# Altium schematic symbol library WR-WTB.SchLib: 259 symbols (part 3 of 5)
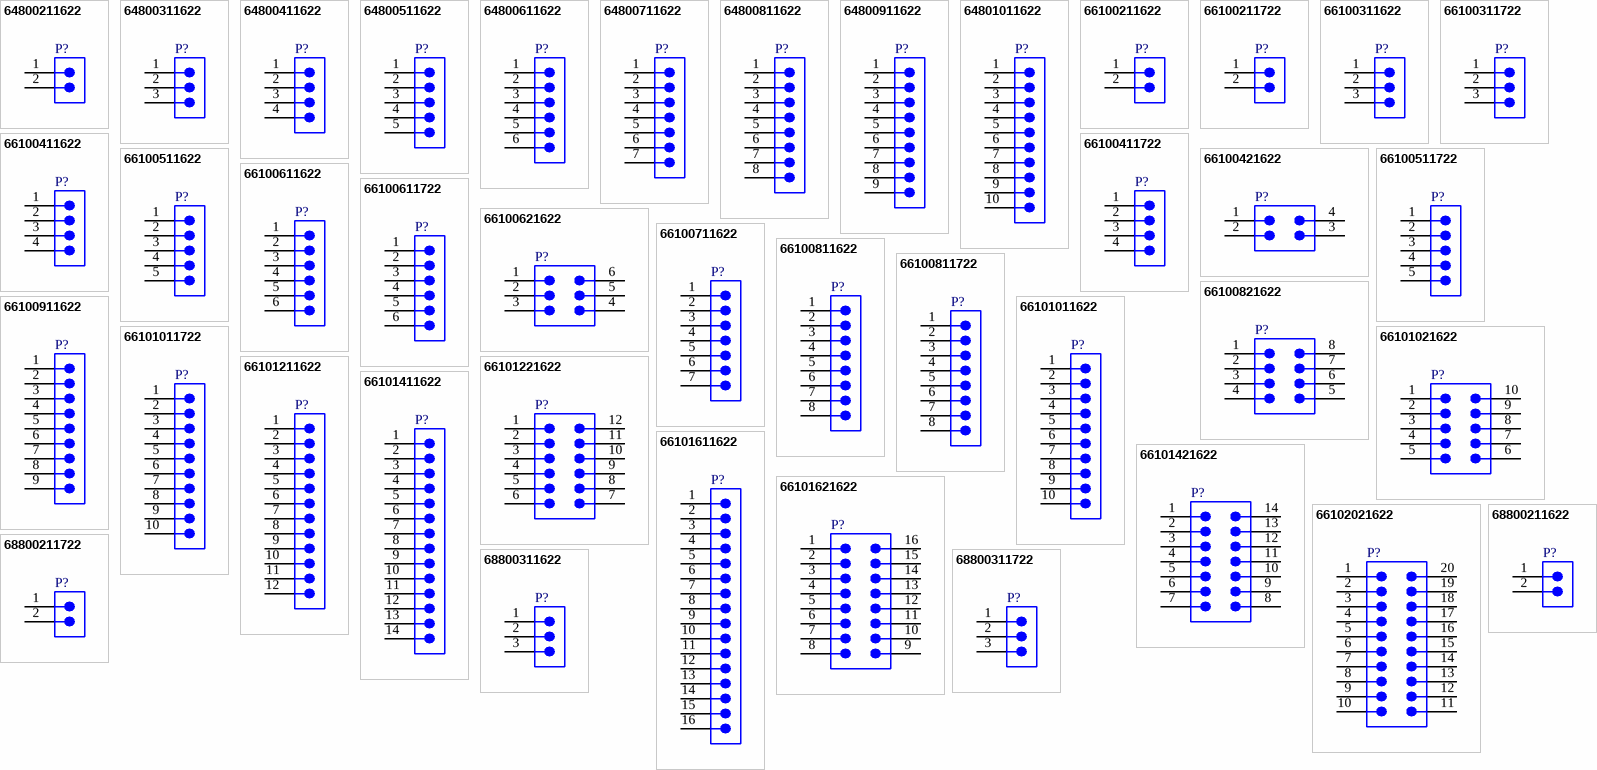
[diagram p8: symbols 64800211622 to 68800311722]

## 68800211622
designator P?  (value not drawn)
WR-WTB “J” Type THT Vertical Male Shrouded Header, pitch 2.5mm, 2pins; Manufacturer: Wurth Elektronik; Contact Resistance: 20mohm; Rated Current: 3A; Working Voltage: 250V(AC); Withstanding Voltage: 800V(AC); Manufacturer Part Number: 68800211622; Product Series: WR-WTB; ComponentLink1Description: Website Link; ComponentLink1URL: https://www.we-online.com; ComponentLink2Description: Datasheet Link; ComponentLink2URL: https://www.we-online.com/components/products/datasheet/68800211622; Mount: Through Hole; Operating Temperature Min: -25degC; Operating Temperature Max: 85degC; Packaging: Bag; Length: 7.5mm; Width: 3.8mm; Height: 6mm; Gender: Male; Number of Pins: 2; Number of Rows: 1; Orientation: Vertical; Lead Pitch: 2.5mm
footprint 68800211622
pins: 1, 2

## 68800211722
designator P?  (value not drawn)
WR-WTB “J” Type THT Male Horizontal Shrouded Header, pitch 2.5mm, 2pins; Manufacturer: Wurth Elektronik; Contact Resistance: 20mohm; Rated Current: 3A; Working Voltage: 250V(AC); Withstanding Voltage: 800V(AC); Manufacturer Part Number: 68800211722; Product Series: WR-WTB; ComponentLink1Description: Website Link; ComponentLink1URL: https://www.we-online.com; ComponentLink2Description: Datasheet Link; ComponentLink2URL: https://www.we-online.com/components/products/datasheet/68800211722; Mount: Through Hole; Operating Temperature Min: -25degC; Operating Temperature Max: 85degC; Packaging: Bag; Length: 7.5mm; Width: 8.3mm; Height: 4.2mm; Gender: Male; Number of Pins: 2; Number of Rows: 1; Orientation: Horizontal; Lead Pitch: 2.5mm
footprint 68800211722
pins: 1, 2

## 68800311622
designator P?  (value not drawn)
WR-WTB “J” Type THT Vertical Male Shrouded Header, pitch 2.5mm, 3pins; Manufacturer: Wurth Elektronik; Contact Resistance: 20mohm; Rated Current: 3A; Working Voltage: 250V(AC); Withstanding Voltage: 800V(AC); Manufacturer Part Number: 68800311622; Product Series: WR-WTB; ComponentLink1Description: Website Link; ComponentLink1URL: https://www.we-online.com; ComponentLink2Description: Datasheet Link; ComponentLink2URL: https://www.we-online.com/components/products/datasheet/68800311622; Mount: Through Hole; Operating Temperature Min: -25degC; Operating Temperature Max: 85degC; Packaging: Bag; Length: 10mm; Width: 3.8mm; Height: 6mm; Gender: Male; Number of Pins: 3; Number of Rows: 1; Orientation: Vertical; Lead Pitch: 2.5mm
footprint 68800311622
pins: 1, 2, 3

## 68800311722
designator P?  (value not drawn)
WR-WTB “J” Type THT Male Horizontal Shrouded Header, pitch 2.5mm, 3pins; Manufacturer: Wurth Elektronik; Contact Resistance: 20mohm; Rated Current: 3A; Working Voltage: 250V(AC); Withstanding Voltage: 800V(AC); Manufacturer Part Number: 68800311722; Product Series: WR-WTB; ComponentLink1Description: Website Link; ComponentLink1URL: https://www.we-online.com; ComponentLink2Description: Datasheet Link; ComponentLink2URL: https://www.we-online.com/components/products/datasheet/68800311722; Mount: Through Hole; Operating Temperature Min: -25degC; Operating Temperature Max: 85degC; Packaging: Bag; Length: 10mm; Width: 8.3mm; Height: 4.2mm; Gender: Male; Number of Pins: 3; Number of Rows: 1; Orientation: Horizontal; Lead Pitch: 2.5mm
footprint 68800311722
pins: 1, 2, 3

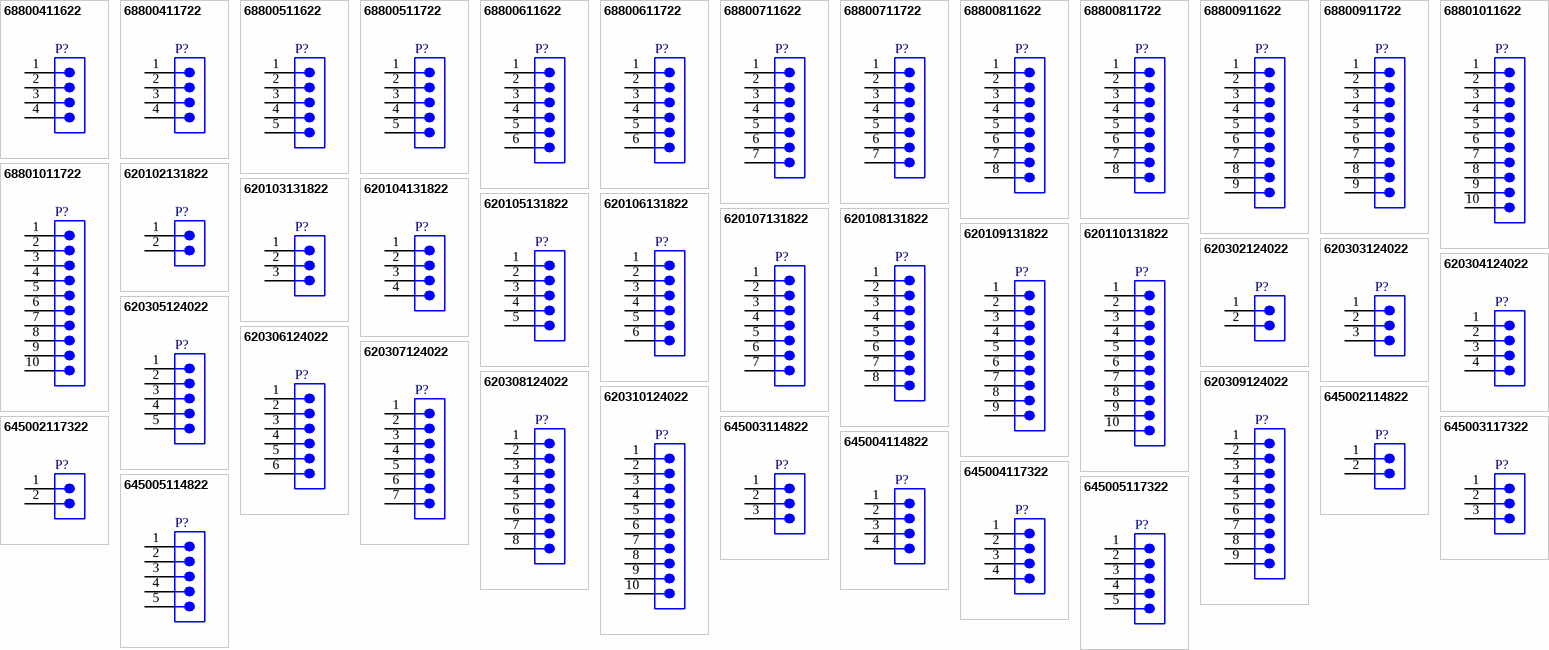
[diagram p3: symbols 68800411622 to 645005117322]

## 68800411622
designator P?  (value not drawn)
WR-WTB “J” Type THT Vertical Male Shrouded Header, pitch 2.5mm, 4pins; Manufacturer: Wurth Elektronik; Contact Resistance: 20mohm; Rated Current: 3A; Working Voltage: 250V(AC); Withstanding Voltage: 800V(AC); Manufacturer Part Number: 68800411622; Product Series: WR-WTB; ComponentLink1Description: Website Link; ComponentLink1URL: https://www.we-online.com; ComponentLink2Description: Datasheet Link; ComponentLink2URL: https://www.we-online.com/components/products/datasheet/68800411622; Mount: Through Hole; Operating Temperature Min: -25degC; Operating Temperature Max: 85degC; Packaging: Bag; Length: 12.5mm; Width: 3.8mm; Height: 6mm; Gender: Male; Number of Pins: 4; Number of Rows: 1; Orientation: Vertical; Lead Pitch: 2.5mm
footprint 68800411622
pins: 1, 2, 3, 4

## 68800411722
designator P?  (value not drawn)
WR-WTB “J” Type THT Male Horizontal Shrouded Header, pitch 2.5mm, 4pins; Manufacturer: Wurth Elektronik; Contact Resistance: 20mohm; Rated Current: 3A; Working Voltage: 250V(AC); Withstanding Voltage: 800V(AC); Manufacturer Part Number: 68800411722; Product Series: WR-WTB; ComponentLink1Description: Website Link; ComponentLink1URL: https://www.we-online.com; ComponentLink2Description: Datasheet Link; ComponentLink2URL: https://www.we-online.com/components/products/datasheet/68800411722; Mount: Through Hole; Operating Temperature Min: -25degC; Operating Temperature Max: 85degC; Packaging: Bag; Length: 12.5mm; Width: 8.3mm; Height: 4.2mm; Gender: Male; Number of Pins: 4; Number of Rows: 1; Orientation: Horizontal; Lead Pitch: 2.5mm
footprint 68800411722
pins: 1, 2, 3, 4

## 68800511622
designator P?  (value not drawn)
WR-WTB “J” Type THT Vertical Male Shrouded Header, pitch 2.5mm, 5pins; Manufacturer: Wurth Elektronik; Contact Resistance: 20mohm; Rated Current: 3A; Working Voltage: 250V(AC); Withstanding Voltage: 800V(AC); Manufacturer Part Number: 68800511622; Product Series: WR-WTB; ComponentLink1Description: Website Link; ComponentLink1URL: https://www.we-online.com; ComponentLink2Description: Datasheet Link; ComponentLink2URL: https://www.we-online.com/components/products/datasheet/68800511622; Mount: Through Hole; Operating Temperature Min: -25degC; Operating Temperature Max: 85degC; Packaging: Bag; Length: 15mm; Width: 3.8mm; Height: 6mm; Gender: Male; Number of Pins: 5; Number of Rows: 1; Orientation: Vertical; Lead Pitch: 2.5mm
footprint 68800511622
pins: 1, 2, 3, 4, 5

## 68800511722
designator P?  (value not drawn)
WR-WTB “J” Type THT Male Horizontal Shrouded Header, pitch 2.5mm, 5pins; Manufacturer: Wurth Elektronik; Contact Resistance: 20mohm; Rated Current: 3A; Working Voltage: 250V(AC); Withstanding Voltage: 800V(AC); Manufacturer Part Number: 68800511722; Product Series: WR-WTB; ComponentLink1Description: Website Link; ComponentLink1URL: https://www.we-online.com; ComponentLink2Description: Datasheet Link; ComponentLink2URL: https://www.we-online.com/components/products/datasheet/68800511722; Mount: Through Hole; Operating Temperature Min: -25degC; Operating Temperature Max: 85degC; Packaging: Bag; Length: 15mm; Width: 8.3mm; Height: 4.2mm; Gender: Male; Number of Pins: 5; Number of Rows: 1; Orientation: Horizontal; Lead Pitch: 2.5mm
footprint 68800511722
pins: 1, 2, 3, 4, 5

## 68800611622
designator P?  (value not drawn)
WR-WTB “J” Type THT Vertical Male Shrouded Header, pitch 2.5mm, 6pins; Manufacturer: Wurth Elektronik; Contact Resistance: 20mohm; Rated Current: 3A; Working Voltage: 250V(AC); Withstanding Voltage: 800V(AC); Manufacturer Part Number: 68800611622; Product Series: WR-WTB; ComponentLink1Description: Website Link; ComponentLink1URL: https://www.we-online.com; ComponentLink2Description: Datasheet Link; ComponentLink2URL: https://www.we-online.com/components/products/datasheet/68800611622; Mount: Through Hole; Operating Temperature Min: -25degC; Operating Temperature Max: 85degC; Packaging: Bag; Length: 17.5mm; Width: 3.8mm; Height: 6mm; Gender: Male; Number of Pins: 6; Number of Rows: 1; Orientation: Vertical; Lead Pitch: 2.5mm
footprint 68800611622
pins: 1, 2, 3, 4, 5, 6

## 68800611722
designator P?  (value not drawn)
WR-WTB “J” Type THT Male Horizontal Shrouded Header, pitch 2.5mm, 6pins; Manufacturer: Wurth Elektronik; Contact Resistance: 20mohm; Rated Current: 3A; Working Voltage: 250V(AC); Withstanding Voltage: 800V(AC); Manufacturer Part Number: 68800611722; Product Series: WR-WTB; ComponentLink1Description: Website Link; ComponentLink1URL: https://www.we-online.com; ComponentLink2Description: Datasheet Link; ComponentLink2URL: https://www.we-online.com/components/products/datasheet/68800611722; Mount: Through Hole; Operating Temperature Min: -25degC; Operating Temperature Max: 85degC; Packaging: Bag; Length: 17.5mm; Width: 8.3mm; Height: 4.2mm; Gender: Male; Number of Pins: 6; Number of Rows: 1; Orientation: Horizontal; Lead Pitch: 2.5mm
footprint 68800611722
pins: 1, 2, 3, 4, 5, 6

## 68800711622
designator P?  (value not drawn)
WR-WTB “J” Type THT Vertical Male Shrouded Header, pitch 2.5mm, 7pins; Manufacturer: Wurth Elektronik; Contact Resistance: 20mohm; Rated Current: 3A; Working Voltage: 250V(AC); Withstanding Voltage: 800V(AC); Manufacturer Part Number: 68800711622; Product Series: WR-WTB; ComponentLink1Description: Website Link; ComponentLink1URL: https://www.we-online.com; ComponentLink2Description: Datasheet Link; ComponentLink2URL: https://www.we-online.com/components/products/datasheet/68800711622; Mount: Through Hole; Operating Temperature Min: -25degC; Operating Temperature Max: 85degC; Packaging: Bag; Length: 20mm; Width: 3.8mm; Height: 6mm; Gender: Male; Number of Pins: 7; Number of Rows: 1; Orientation: Vertical; Lead Pitch: 2.5mm
footprint 68800711622
pins: 1, 2, 3, 4, 5, 6, 7

## 68800711722
designator P?  (value not drawn)
WR-WTB “J” Type THT Male Horizontal Shrouded Header, pitch 2.5mm, 7pins; Manufacturer: Wurth Elektronik; Contact Resistance: 20mohm; Rated Current: 3A; Working Voltage: 250V(AC); Withstanding Voltage: 800V(AC); Manufacturer Part Number: 68800711722; Product Series: WR-WTB; ComponentLink1Description: Website Link; ComponentLink1URL: https://www.we-online.com; ComponentLink2Description: Datasheet Link; ComponentLink2URL: https://www.we-online.com/components/products/datasheet/68800711722; Mount: Through Hole; Operating Temperature Min: -25degC; Operating Temperature Max: 85degC; Packaging: Bag; Length: 20mm; Width: 8.3mm; Height: 4.2mm; Gender: Male; Number of Pins: 7; Number of Rows: 1; Orientation: Horizontal; Lead Pitch: 2.5mm
footprint 68800711722
pins: 1, 2, 3, 4, 5, 6, 7

## 68800811622
designator P?  (value not drawn)
WR-WTB “J” Type THT Vertical Male Shrouded Header, pitch 2.5mm, 8pins; Manufacturer: Wurth Elektronik; Contact Resistance: 20mohm; Rated Current: 3A; Working Voltage: 250V(AC); Withstanding Voltage: 800V(AC); Manufacturer Part Number: 68800811622; Product Series: WR-WTB; ComponentLink1Description: Website Link; ComponentLink1URL: https://www.we-online.com; ComponentLink2Description: Datasheet Link; ComponentLink2URL: https://www.we-online.com/components/products/datasheet/68800811622; Mount: Through Hole; Operating Temperature Min: -25degC; Operating Temperature Max: 85degC; Packaging: Bag; Length: 22.5mm; Width: 3.8mm; Height: 6mm; Gender: Male; Number of Pins: 8; Number of Rows: 1; Orientation: Vertical; Lead Pitch: 2.5mm
footprint 68800811622
pins: 1, 2, 3, 4, 5, 6, 7, 8

## 68800811722
designator P?  (value not drawn)
WR-WTB “J” Type THT Male Horizontal Shrouded Header, pitch 2.5mm, 8pins; Manufacturer: Wurth Elektronik; Contact Resistance: 20mohm; Rated Current: 3A; Working Voltage: 250V(AC); Withstanding Voltage: 800V(AC); Manufacturer Part Number: 68800811722; Product Series: WR-WTB; ComponentLink1Description: Website Link; ComponentLink1URL: https://www.we-online.com; ComponentLink2Description: Datasheet Link; ComponentLink2URL: https://www.we-online.com/components/products/datasheet/68800811722; Mount: Through Hole; Operating Temperature Min: -25degC; Operating Temperature Max: 85degC; Packaging: Bag; Length: 22.5mm; Width: 8.3mm; Height: 4.2mm; Gender: Male; Number of Pins: 8; Number of Rows: 1; Orientation: Horizontal; Lead Pitch: 2.5mm
footprint 68800811722
pins: 1, 2, 3, 4, 5, 6, 7, 8

## 68800911622
designator P?  (value not drawn)
WR-WTB “J” Type THT Vertical Male Shrouded Header, pitch 2.5mm, 9pins; Manufacturer: Wurth Elektronik; Contact Resistance: 20mohm; Rated Current: 3A; Working Voltage: 250V(AC); Withstanding Voltage: 800V(AC); Manufacturer Part Number: 68800911622; Product Series: WR-WTB; ComponentLink1Description: Website Link; ComponentLink1URL: https://www.we-online.com; ComponentLink2Description: Datasheet Link; ComponentLink2URL: https://www.we-online.com/components/products/datasheet/68800911622; Mount: Through Hole; Operating Temperature Min: -25degC; Operating Temperature Max: 85degC; Packaging: Bag; Length: 25mm; Width: 3.8mm; Height: 6mm; Gender: Male; Number of Pins: 9; Number of Rows: 1; Orientation: Vertical; Lead Pitch: 2.5mm
footprint 68800911622
pins: 1, 2, 3, 4, 5, 6, 7, 8, 9

## 68800911722
designator P?  (value not drawn)
WR-WTB “J” Type THT Male Horizontal Shrouded Header, pitch 2.5mm, 9pins; Manufacturer: Wurth Elektronik; Contact Resistance: 20mohm; Rated Current: 3A; Working Voltage: 250V(AC); Withstanding Voltage: 800V(AC); Manufacturer Part Number: 68800911722; Product Series: WR-WTB; ComponentLink1Description: Website Link; ComponentLink1URL: https://www.we-online.com; ComponentLink2Description: Datasheet Link; ComponentLink2URL: https://www.we-online.com/components/products/datasheet/68800911722; Mount: Through Hole; Operating Temperature Min: -25degC; Operating Temperature Max: 85degC; Packaging: Bag; Length: 25mm; Width: 8.3mm; Height: 4.2mm; Gender: Male; Number of Pins: 9; Number of Rows: 1; Orientation: Horizontal; Lead Pitch: 2.5mm
footprint 68800911722
pins: 1, 2, 3, 4, 5, 6, 7, 8, 9

## 68801011622
designator P?  (value not drawn)
WR-WTB “J” Type THT Vertical Male Shrouded Header, pitch 2.5mm, 10pins; Manufacturer: Wurth Elektronik; Contact Resistance: 20mohm; Rated Current: 3A; Working Voltage: 250V(AC); Withstanding Voltage: 800V(AC); Manufacturer Part Number: 68801011622; Product Series: WR-WTB; ComponentLink1Description: Website Link; ComponentLink1URL: https://www.we-online.com; ComponentLink2Description: Datasheet Link; ComponentLink2URL: https://www.we-online.com/components/products/datasheet/68801011622; Mount: Through Hole; Operating Temperature Min: -25degC; Operating Temperature Max: 85degC; Packaging: Bag; Length: 27.5mm; Width: 3.8mm; Height: 6mm; Gender: Male; Number of Pins: 10; Number of Rows: 1; Orientation: Vertical; Lead Pitch: 2.5mm
footprint 68801011622
pins: 1, 2, 3, 4, 5, 6, 7, 8, 9, 10

## 68801011722
designator P?  (value not drawn)
WR-WTB “J” Type THT Male Horizontal Shrouded Header, pitch 2.5mm, 10pins; Manufacturer: Wurth Elektronik; Contact Resistance: 20mohm; Rated Current: 3A; Working Voltage: 250V(AC); Withstanding Voltage: 800V(AC); Manufacturer Part Number: 68801011722; Product Series: WR-WTB; ComponentLink1Description: Website Link; ComponentLink1URL: https://www.we-online.com; ComponentLink2Description: Datasheet Link; ComponentLink2URL: https://www.we-online.com/components/products/datasheet/68801011722; Mount: Through Hole; Operating Temperature Min: -25degC; Operating Temperature Max: 85degC; Packaging: Bag; Length: 27.5mm; Width: 8.3mm; Height: 4.2mm; Gender: Male; Number of Pins: 10; Number of Rows: 1; Orientation: Horizontal; Lead Pitch: 2.5mm
footprint 68801011722
pins: 1, 2, 3, 4, 5, 6, 7, 8, 9, 10

## 620102131822
designator P?  (value not drawn)
WR-WTB SMT Male Horizontal Shrouded Header, pitch 2mm, 2pins; Manufacturer: Wurth Elektronik; Contact Resistance: 20mohm; Rated Current: 2A; Working Voltage: 100V(AC); Withstanding Voltage: 800V(AC); Manufacturer Part Number: 620102131822; Product Series: WR-WTB; ComponentLink1Description: Website Link; ComponentLink1URL: https://www.we-online.com; ComponentLink2Description: Datasheet Link; ComponentLink2URL: https://www.we-online.com/components/products/datasheet/620102131822; Mount: Surface Mount; Operating Temperature Min: -25degC; Operating Temperature Max: 85degC; Packaging: Tape and Reel; Length: 8mm; Width: 8.6mm; Height: 5.5mm; Gender: Male; Number of Pins: 2; Number of Rows: 1; Orientation: Horizontal; Lead Pitch: 2mm
footprint 620102131822
pins: 1, 2

## 620103131822
designator P?  (value not drawn)
WR-WTB SMT Male Horizontal Shrouded Header, pitch 2mm, 3pins; Manufacturer: Wurth Elektronik; Contact Resistance: 20mohm; Rated Current: 2A; Working Voltage: 100V(AC); Withstanding Voltage: 800V(AC); Manufacturer Part Number: 620103131822; Product Series: WR-WTB; ComponentLink1Description: Website Link; ComponentLink1URL: https://www.we-online.com; ComponentLink2Description: Datasheet Link; ComponentLink2URL: https://www.we-online.com/components/products/datasheet/620103131822; Mount: Surface Mount; Operating Temperature Min: -25degC; Operating Temperature Max: 85degC; Packaging: Tape and Reel; Length: 10mm; Width: 8.6mm; Height: 5.5mm; Gender: Male; Number of Pins: 3; Number of Rows: 1; Orientation: Horizontal; Lead Pitch: 2mm
footprint 620103131822
pins: 1, 2, 3

## 620104131822
designator P?  (value not drawn)
WR-WTB SMT Male Horizontal Shrouded Header, pitch 2mm, 4pins; Manufacturer: Wurth Elektronik; Contact Resistance: 20mohm; Rated Current: 2A; Working Voltage: 100V(AC); Withstanding Voltage: 800V(AC); Manufacturer Part Number: 620104131822; Product Series: WR-WTB; ComponentLink1Description: Website Link; ComponentLink1URL: https://www.we-online.com; ComponentLink2Description: Datasheet Link; ComponentLink2URL: https://www.we-online.com/components/products/datasheet/620104131822; Mount: Surface Mount; Operating Temperature Min: -25degC; Operating Temperature Max: 85degC; Packaging: Tape and Reel; Length: 12mm; Width: 8.6mm; Height: 5.5mm; Gender: Male; Number of Pins: 4; Number of Rows: 1; Orientation: Horizontal; Lead Pitch: 2mm
footprint 620104131822
pins: 1, 2, 3, 4

## 620105131822
designator P?  (value not drawn)
WR-WTB SMT Male Horizontal Shrouded Header, pitch 2mm, 5pins; Manufacturer: Wurth Elektronik; Contact Resistance: 20mohm; Rated Current: 2A; Working Voltage: 100V(AC); Withstanding Voltage: 800V(AC); Manufacturer Part Number: 620105131822; Product Series: WR-WTB; ComponentLink1Description: Website Link; ComponentLink1URL: https://www.we-online.com; ComponentLink2Description: Datasheet Link; ComponentLink2URL: https://www.we-online.com/components/products/datasheet/620105131822; Mount: Surface Mount; Operating Temperature Min: -25degC; Operating Temperature Max: 85degC; Packaging: Tape and Reel; Length: 14mm; Width: 8.6mm; Height: 5.5mm; Gender: Male; Number of Pins: 5; Number of Rows: 1; Orientation: Horizontal; Lead Pitch: 2mm
footprint 620105131822
pins: 1, 2, 3, 4, 5

## 620106131822
designator P?  (value not drawn)
WR-WTB SMT Male Horizontal Shrouded Header, pitch 2mm, 6pins; Manufacturer: Wurth Elektronik; Contact Resistance: 20mohm; Rated Current: 2A; Working Voltage: 100V(AC); Withstanding Voltage: 800V(AC); Manufacturer Part Number: 620106131822; Product Series: WR-WTB; ComponentLink1Description: Website Link; ComponentLink1URL: https://www.we-online.com; ComponentLink2Description: Datasheet Link; ComponentLink2URL: https://www.we-online.com/components/products/datasheet/620106131822; Mount: Surface Mount; Operating Temperature Min: -25degC; Operating Temperature Max: 85degC; Packaging: Tape and Reel; Length: 16mm; Width: 8.6mm; Height: 5.5mm; Gender: Male; Number of Pins: 6; Number of Rows: 1; Orientation: Horizontal; Lead Pitch: 2mm
footprint 620106131822
pins: 1, 2, 3, 4, 5, 6

## 620107131822
designator P?  (value not drawn)
WR-WTB SMT Male Horizontal Shrouded Header, pitch 2mm, 7pins; Manufacturer: Wurth Elektronik; Contact Resistance: 20mohm; Rated Current: 2A; Working Voltage: 100V(AC); Withstanding Voltage: 800V(AC); Manufacturer Part Number: 620107131822; Product Series: WR-WTB; ComponentLink1Description: Website Link; ComponentLink1URL: https://www.we-online.com; ComponentLink2Description: Datasheet Link; ComponentLink2URL: https://www.we-online.com/components/products/datasheet/620107131822; Mount: Surface Mount; Operating Temperature Min: -25degC; Operating Temperature Max: 85degC; Packaging: Tape and Reel; Length: 18mm; Width: 8.6mm; Height: 5.5mm; Gender: Male; Number of Pins: 7; Number of Rows: 1; Orientation: Horizontal; Lead Pitch: 2mm
footprint 620107131822
pins: 1, 2, 3, 4, 5, 6, 7

## 620108131822
designator P?  (value not drawn)
WR-WTB SMT Male Horizontal Shrouded Header, pitch 2mm, 8pins; Manufacturer: Wurth Elektronik; Contact Resistance: 20mohm; Rated Current: 2A; Working Voltage: 100V(AC); Withstanding Voltage: 800V(AC); Manufacturer Part Number: 620108131822; Product Series: WR-WTB; ComponentLink1Description: Website Link; ComponentLink1URL: https://www.we-online.com; ComponentLink2Description: Datasheet Link; ComponentLink2URL: https://www.we-online.com/components/products/datasheet/620108131822; Mount: Surface Mount; Operating Temperature Min: -25degC; Operating Temperature Max: 85degC; Packaging: Tape and Reel; Length: 20mm; Width: 8.6mm; Height: 5.5mm; Gender: Male; Number of Pins: 8; Number of Rows: 1; Orientation: Horizontal; Lead Pitch: 2mm
footprint 620108131822
pins: 1, 2, 3, 4, 5, 6, 7, 8

## 620109131822
designator P?  (value not drawn)
WR-WTB SMT Male Horizontal Shrouded Header, pitch 2mm, 9pins; Manufacturer: Wurth Elektronik; Contact Resistance: 20mohm; Rated Current: 2A; Working Voltage: 100V(AC); Withstanding Voltage: 800V(AC); Manufacturer Part Number: 620109131822; Product Series: WR-WTB; ComponentLink1Description: Website Link; ComponentLink1URL: https://www.we-online.com; ComponentLink2Description: Datasheet Link; ComponentLink2URL: https://www.we-online.com/components/products/datasheet/620109131822; Mount: Surface Mount; Operating Temperature Min: -25degC; Operating Temperature Max: 85degC; Packaging: Tape and Reel; Length: 22mm; Width: 8.6mm; Height: 5.5mm; Gender: Male; Number of Pins: 9; Number of Rows: 1; Orientation: Horizontal; Lead Pitch: 2mm
footprint 620109131822
pins: 1, 2, 3, 4, 5, 6, 7, 8, 9

## 620110131822
designator P?  (value not drawn)
WR-WTB SMT Male Horizontal Shrouded Header, pitch 2mm, 10pins; Manufacturer: Wurth Elektronik; Contact Resistance: 20mohm; Rated Current: 2A; Working Voltage: 100V(AC); Withstanding Voltage: 800V(AC); Manufacturer Part Number: 620110131822; Product Series: WR-WTB; ComponentLink1Description: Website Link; ComponentLink1URL: https://www.we-online.com; ComponentLink2Description: Datasheet Link; ComponentLink2URL: https://www.we-online.com/components/products/datasheet/620110131822; Mount: Surface Mount; Operating Temperature Min: -25degC; Operating Temperature Max: 85degC; Packaging: Tape and Reel; Length: 24mm; Width: 8.6mm; Height: 5.5mm; Gender: Male; Number of Pins: 10; Number of Rows: 1; Orientation: Horizontal; Lead Pitch: 2mm
footprint 620110131822
pins: 1, 2, 3, 4, 5, 6, 7, 8, 9, 10

## 620302124022
designator P?  (value not drawn)
WR-WTB SMT Male Vertical Shrouded Header, pitch 2mm, 2pins; Manufacturer: Wurth Elektronik; Contact Resistance: 20mohm; Rated Current: 2A; Working Voltage: 100V(AC); Withstanding Voltage: 800V(AC); Manufacturer Part Number: 620302124022; Product Series: WR-WTB; ComponentLink1Description: Website Link; ComponentLink1URL: https://www.we-online.com; ComponentLink2Description: Datasheet Link; ComponentLink2URL: https://www.we-online.com/components/products/datasheet/620302124022; Mount: Surface Mount; Operating Temperature Min: -25degC; Operating Temperature Max: 85degC; Packaging: Tape and Reel; Length: 8mm; Width: 7mm; Height: 6.68mm; Gender: Male; Number of Pins: 2; Number of Rows: 1; Orientation: Vertical; Lead Pitch: 2mm
footprint 620302124022
pins: 1, 2

## 620303124022
designator P?  (value not drawn)
WR-WTB SMT Male Vertical Shrouded Header, pitch 2mm, 3pins; Manufacturer: Wurth Elektronik; Contact Resistance: 20mohm; Rated Current: 2A; Working Voltage: 100V(AC); Withstanding Voltage: 800V(AC); Manufacturer Part Number: 620303124022; Product Series: WR-WTB; ComponentLink1Description: Website Link; ComponentLink1URL: https://www.we-online.com; ComponentLink2Description: Datasheet Link; ComponentLink2URL: https://www.we-online.com/components/products/datasheet/620303124022; Mount: Surface Mount; Operating Temperature Min: -25degC; Operating Temperature Max: 85degC; Packaging: Tape and Reel; Length: 10mm; Width: 7mm; Height: 6.68mm; Gender: Male; Number of Pins: 3; Number of Rows: 1; Orientation: Vertical; Lead Pitch: 2mm
footprint 620303124022
pins: 1, 2, 3

## 620304124022
designator P?  (value not drawn)
WR-WTB SMT Male Vertical Shrouded Header, pitch 2mm, 4pins; Manufacturer: Wurth Elektronik; Contact Resistance: 20mohm; Rated Current: 2A; Working Voltage: 100V(AC); Withstanding Voltage: 800V(AC); Manufacturer Part Number: 620304124022; Product Series: WR-WTB; ComponentLink1Description: Website Link; ComponentLink1URL: https://www.we-online.com; ComponentLink2Description: Datasheet Link; ComponentLink2URL: https://www.we-online.com/components/products/datasheet/620304124022; Mount: Surface Mount; Operating Temperature Min: -25degC; Operating Temperature Max: 85degC; Packaging: Tape and Reel; Length: 12mm; Width: 7mm; Height: 6.68mm; Gender: Male; Number of Pins: 4; Number of Rows: 1; Orientation: Vertical; Lead Pitch: 2mm
footprint 620304124022
pins: 1, 2, 3, 4

## 620305124022
designator P?  (value not drawn)
WR-WTB SMT Male Vertical Shrouded Header, pitch 2mm, 5pins; Manufacturer: Wurth Elektronik; Contact Resistance: 20mohm; Rated Current: 2A; Working Voltage: 100V(AC); Withstanding Voltage: 800V(AC); Manufacturer Part Number: 620305124022; Product Series: WR-WTB; ComponentLink1Description: Website Link; ComponentLink1URL: https://www.we-online.com; ComponentLink2Description: Datasheet Link; ComponentLink2URL: https://www.we-online.com/components/products/datasheet/620305124022; Mount: Surface Mount; Operating Temperature Min: -25degC; Operating Temperature Max: 85degC; Packaging: Tape and Reel; Length: 14mm; Width: 7mm; Height: 6.68mm; Gender: Male; Number of Pins: 5; Number of Rows: 1; Orientation: Vertical; Lead Pitch: 2mm
footprint 620305124022
pins: 1, 2, 3, 4, 5

## 620306124022
designator P?  (value not drawn)
WR-WTB SMT Male Vertical Shrouded Header, pitch 2mm, 6pins; Manufacturer: Wurth Elektronik; Contact Resistance: 20mohm; Rated Current: 2A; Working Voltage: 100V(AC); Withstanding Voltage: 800V(AC); Manufacturer Part Number: 620306124022; Product Series: WR-WTB; ComponentLink1Description: Website Link; ComponentLink1URL: https://www.we-online.com; ComponentLink2Description: Datasheet Link; ComponentLink2URL: https://www.we-online.com/components/products/datasheet/620306124022; Mount: Surface Mount; Operating Temperature Min: -25degC; Operating Temperature Max: 85degC; Packaging: Tape and Reel; Length: 16mm; Width: 7mm; Height: 6.68mm; Gender: Male; Number of Pins: 6; Number of Rows: 1; Orientation: Vertical; Lead Pitch: 2mm
footprint 620306124022
pins: 1, 2, 3, 4, 5, 6

## 620307124022
designator P?  (value not drawn)
WR-WTB SMT Male Vertical Shrouded Header, pitch 2mm, 7pins; Manufacturer: Wurth Elektronik; Contact Resistance: 20mohm; Rated Current: 2A; Working Voltage: 100V(AC); Withstanding Voltage: 800V(AC); Manufacturer Part Number: 620307124022; Product Series: WR-WTB; ComponentLink1Description: Website Link; ComponentLink1URL: https://www.we-online.com; ComponentLink2Description: Datasheet Link; ComponentLink2URL: https://www.we-online.com/components/products/datasheet/620307124022; Mount: Surface Mount; Operating Temperature Min: -25degC; Operating Temperature Max: 85degC; Packaging: Tape and Reel; Length: 18mm; Width: 7mm; Height: 6.68mm; Gender: Male; Number of Pins: 7; Number of Rows: 1; Orientation: Vertical; Lead Pitch: 2mm
footprint 620307124022
pins: 1, 2, 3, 4, 5, 6, 7

## 620308124022
designator P?  (value not drawn)
WR-WTB SMT Male Vertical Shrouded Header, pitch 2mm, 8pins; Manufacturer: Wurth Elektronik; Contact Resistance: 20mohm; Rated Current: 2A; Working Voltage: 100V(AC); Withstanding Voltage: 800V(AC); Manufacturer Part Number: 620308124022; Product Series: WR-WTB; ComponentLink1Description: Website Link; ComponentLink1URL: https://www.we-online.com; ComponentLink2Description: Datasheet Link; ComponentLink2URL: https://www.we-online.com/components/products/datasheet/620308124022; Mount: Surface Mount; Operating Temperature Min: -25degC; Operating Temperature Max: 85degC; Packaging: Tape and Reel; Length: 20mm; Width: 7mm; Height: 6.68mm; Gender: Male; Number of Pins: 8; Number of Rows: 1; Orientation: Vertical; Lead Pitch: 2mm
footprint 620308124022
pins: 1, 2, 3, 4, 5, 6, 7, 8

## 620309124022
designator P?  (value not drawn)
WR-WTB SMT Male Vertical Shrouded Header, pitch 2mm, 9pins; Manufacturer: Wurth Elektronik; Contact Resistance: 20mohm; Rated Current: 2A; Working Voltage: 100V(AC); Withstanding Voltage: 800V(AC); Manufacturer Part Number: 620309124022; Product Series: WR-WTB; ComponentLink1Description: Website Link; ComponentLink1URL: https://www.we-online.com; ComponentLink2Description: Datasheet Link; ComponentLink2URL: https://www.we-online.com/components/products/datasheet/620309124022; Mount: Surface Mount; Operating Temperature Min: -25degC; Operating Temperature Max: 85degC; Packaging: Tape and Reel; Length: 22mm; Width: 7mm; Height: 6.68mm; Gender: Male; Number of Pins: 9; Number of Rows: 1; Orientation: Vertical; Lead Pitch: 2mm
footprint 620309124022
pins: 1, 2, 3, 4, 5, 6, 7, 8, 9

## 620310124022
designator P?  (value not drawn)
WR-WTB SMT Male Vertical Shrouded Header, pitch 2mm, 10pins; Manufacturer: Wurth Elektronik; Contact Resistance: 20mohm; Rated Current: 2A; Working Voltage: 100V(AC); Withstanding Voltage: 800V(AC); Manufacturer Part Number: 620310124022; Product Series: WR-WTB; ComponentLink1Description: Website Link; ComponentLink1URL: https://www.we-online.com; ComponentLink2Description: Datasheet Link; ComponentLink2URL: https://www.we-online.com/components/products/datasheet/620310124022; Mount: Surface Mount; Operating Temperature Min: -25degC; Operating Temperature Max: 85degC; Packaging: Tape and Reel; Length: 24mm; Width: 7mm; Height: 6.68mm; Gender: Male; Number of Pins: 10; Number of Rows: 1; Orientation: Vertical; Lead Pitch: 2mm
footprint 620310124022
pins: 1, 2, 3, 4, 5, 6, 7, 8, 9, 10

## 645002114822
designator P?  (value not drawn)
WR-WTB THT Male Vertical Locking Header, pitch 3.96mm, 2pins; Manufacturer: Wurth Elektronik; Contact Resistance: 20mohm; Rated Current: 7A; Working Voltage: 250V(AC); Withstanding Voltage: 1500V(AC); Manufacturer Part Number: 645002114822; Product Series: WR-WTB; ComponentLink1Description: Website Link; ComponentLink1URL: https://www.we-online.com; ComponentLink2Description: Datasheet Link; ComponentLink2URL: https://www.we-online.com/components/products/datasheet/645002114822; Mount: Through Hole; Operating Temperature Min: -40degC; Operating Temperature Max: 105degC; Packaging: Bag; Length: 7.92mm; Width: 10.75mm; Height: 10.65mm; Gender: Male; Number of Pins: 2; Number of Rows: 1; Orientation: Vertical; Lead Pitch: 3.96mm
footprint 645002114822
pins: 1, 2

## 645002117322
designator P?  (value not drawn)
WR-WTB THT Male Right Angled Locking Header, pitch 3.96mm, 2pins; Manufacturer: Wurth Elektronik; Contact Resistance: 20mohm; Rated Current: 7A; Working Voltage: 250V(AC); Withstanding Voltage: 1500V(AC); Manufacturer Part Number: 645002117322; Product Series: WR-WTB; ComponentLink1Description: Website Link; ComponentLink1URL: https://www.we-online.com; ComponentLink2Description: Datasheet Link; ComponentLink2URL: https://www.we-online.com/components/products/datasheet/645002117322; Mount: Through Hole; Operating Temperature Min: -40degC; Operating Temperature Max: 105degC; Packaging: Bag; Length: 7.92mm; Width: 19.4mm; Height: 10.2mm; Gender: Male; Number of Pins: 2; Number of Rows: 1; Orientation: Right Angled; Lead Pitch: 3.96mm
footprint 645002117322
pins: 1, 2

## 645003114822
designator P?  (value not drawn)
WR-WTB THT Male Vertical Locking Header, pitch 3.96mm, 3pins; Manufacturer: Wurth Elektronik; Contact Resistance: 20mohm; Rated Current: 7A; Working Voltage: 250V(AC); Withstanding Voltage: 1500V(AC); Manufacturer Part Number: 645003114822; Product Series: WR-WTB; ComponentLink1Description: Website Link; ComponentLink1URL: https://www.we-online.com; ComponentLink2Description: Datasheet Link; ComponentLink2URL: https://www.we-online.com/components/products/datasheet/645003114822; Mount: Through Hole; Operating Temperature Min: -40degC; Operating Temperature Max: 105degC; Packaging: Bag; Length: 11.88mm; Width: 10.75mm; Height: 10.65mm; Gender: Male; Number of Pins: 3; Number of Rows: 1; Orientation: Vertical; Lead Pitch: 3.96mm
footprint 645003114822
pins: 1, 2, 3

## 645003117322
designator P?  (value not drawn)
WR-WTB THT Male Right Angled Locking Header, pitch 3.96mm, 3pins; Manufacturer: Wurth Elektronik; Contact Resistance: 20mohm; Rated Current: 7A; Working Voltage: 250V(AC); Withstanding Voltage: 1500V(AC); Manufacturer Part Number: 645003117322; Product Series: WR-WTB; ComponentLink1Description: Website Link; ComponentLink1URL: https://www.we-online.com; ComponentLink2Description: Datasheet Link; ComponentLink2URL: https://www.we-online.com/components/products/datasheet/645003117322; Mount: Through Hole; Operating Temperature Min: -40degC; Operating Temperature Max: 105degC; Packaging: Bag; Length: 11.88mm; Width: 19.4mm; Height: 10.2mm; Gender: Male; Number of Pins: 3; Number of Rows: 1; Orientation: Right Angled; Lead Pitch: 3.96mm
footprint 645003117322
pins: 1, 2, 3

## 645004114822
designator P?  (value not drawn)
WR-WTB THT Male Vertical Locking Header, pitch 3.96mm, 4pins; Manufacturer: Wurth Elektronik; Contact Resistance: 20mohm; Rated Current: 7A; Working Voltage: 250V(AC); Withstanding Voltage: 1500V(AC); Manufacturer Part Number: 645004114822; Product Series: WR-WTB; ComponentLink1Description: Website Link; ComponentLink1URL: https://www.we-online.com; ComponentLink2Description: Datasheet Link; ComponentLink2URL: https://www.we-online.com/components/products/datasheet/645004114822; Mount: Through Hole; Operating Temperature Min: -40degC; Operating Temperature Max: 105degC; Packaging: Bag; Length: 15.84mm; Width: 10.75mm; Height: 10.65mm; Gender: Male; Number of Pins: 4; Number of Rows: 1; Orientation: Vertical; Lead Pitch: 3.96mm
footprint 645004114822
pins: 1, 2, 3, 4

## 645004117322
designator P?  (value not drawn)
WR-WTB THT Male Right Angled Locking Header, pitch 3.96mm, 4pins; Manufacturer: Wurth Elektronik; Contact Resistance: 20mohm; Rated Current: 7A; Working Voltage: 250V(AC); Withstanding Voltage: 1500V(AC); Manufacturer Part Number: 645004117322; Product Series: WR-WTB; ComponentLink1Description: Website Link; ComponentLink1URL: https://www.we-online.com; ComponentLink2Description: Datasheet Link; ComponentLink2URL: https://www.we-online.com/components/products/datasheet/645004117322; Mount: Through Hole; Operating Temperature Min: -40degC; Operating Temperature Max: 105degC; Packaging: Bag; Length: 15.84mm; Width: 19.4mm; Height: 10.2mm; Gender: Male; Number of Pins: 4; Number of Rows: 1; Orientation: Right Angled; Lead Pitch: 3.96mm
footprint 645004117322
pins: 1, 2, 3, 4

## 645005114822
designator P?  (value not drawn)
WR-WTB THT Male Vertical Locking Header, pitch 3.96mm, 5pins; Manufacturer: Wurth Elektronik; Contact Resistance: 20mohm; Rated Current: 7A; Working Voltage: 250V(AC); Withstanding Voltage: 1500V(AC); Manufacturer Part Number: 645005114822; Product Series: WR-WTB; ComponentLink1Description: Website Link; ComponentLink1URL: https://www.we-online.com; ComponentLink2Description: Datasheet Link; ComponentLink2URL: https://www.we-online.com/components/products/datasheet/645005114822; Mount: Through Hole; Operating Temperature Min: -40degC; Operating Temperature Max: 105degC; Packaging: Bag; Length: 19.8mm; Width: 10.75mm; Height: 10.65mm; Gender: Male; Number of Pins: 5; Number of Rows: 1; Orientation: Vertical; Lead Pitch: 3.96mm
footprint 645005114822
pins: 1, 2, 3, 4, 5

## 645005117322
designator P?  (value not drawn)
WR-WTB THT Male Right Angled Locking Header, pitch 3.96mm, 5pins; Manufacturer: Wurth Elektronik; Contact Resistance: 20mohm; Rated Current: 7A; Working Voltage: 250V(AC); Withstanding Voltage: 1500V(AC); Manufacturer Part Number: 645005117322; Product Series: WR-WTB; ComponentLink1Description: Website Link; ComponentLink1URL: https://www.we-online.com; ComponentLink2Description: Datasheet Link; ComponentLink2URL: https://www.we-online.com/components/products/datasheet/645005117322; Mount: Through Hole; Operating Temperature Min: -40degC; Operating Temperature Max: 105degC; Packaging: Bag; Length: 19.8mm; Width: 19.4mm; Height: 10.2mm; Gender: Male; Number of Pins: 5; Number of Rows: 1; Orientation: Right Angled; Lead Pitch: 3.96mm
footprint 645005117322
pins: 1, 2, 3, 4, 5

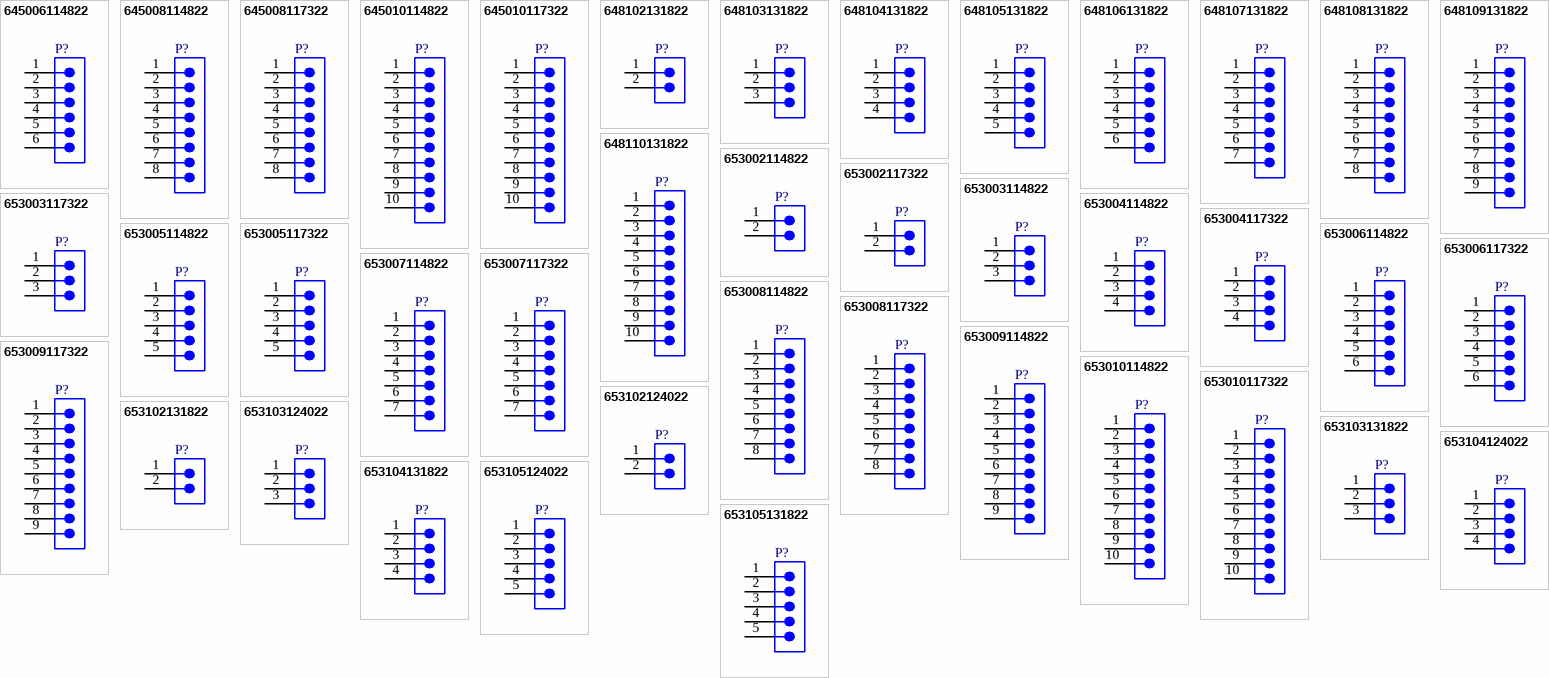
[diagram p4: symbols 645006114822 to 653105131822]

## 645006114822
designator P?  (value not drawn)
WR-WTB THT Male Vertical Locking Header, pitch 3.96mm, 6pins; Manufacturer: Wurth Elektronik; Contact Resistance: 20mohm; Rated Current: 7A; Working Voltage: 250V(AC); Withstanding Voltage: 1500V(AC); Manufacturer Part Number: 645006114822; Product Series: WR-WTB; ComponentLink1Description: Website Link; ComponentLink1URL: https://www.we-online.com; ComponentLink2Description: Datasheet Link; ComponentLink2URL: https://www.we-online.com/components/products/datasheet/645006114822; Mount: Through Hole; Operating Temperature Min: -40degC; Operating Temperature Max: 105degC; Packaging: Bag; Length: 23.76mm; Width: 10.75mm; Height: 10.65mm; Gender: Male; Number of Pins: 6; Number of Rows: 1; Orientation: Vertical; Lead Pitch: 3.96mm
footprint 645006114822
pins: 1, 2, 3, 4, 5, 6

## 645008114822
designator P?  (value not drawn)
WR-WTB THT Male Vertical Locking Header, pitch 3.96mm, 8pins; Manufacturer: Wurth Elektronik; Contact Resistance: 20mohm; Rated Current: 7A; Working Voltage: 250V(AC); Withstanding Voltage: 1500V(AC); Manufacturer Part Number: 645008114822; Product Series: WR-WTB; ComponentLink1Description: Website Link; ComponentLink1URL: https://www.we-online.com; ComponentLink2Description: Datasheet Link; ComponentLink2URL: https://www.we-online.com/components/products/datasheet/645008114822; Mount: Through Hole; Operating Temperature Min: -40degC; Operating Temperature Max: 105degC; Packaging: Bag; Length: 31.68mm; Width: 10.75mm; Height: 10.65mm; Gender: Male; Number of Pins: 8; Number of Rows: 1; Orientation: Vertical; Lead Pitch: 3.96mm
footprint 645008114822
pins: 1, 2, 3, 4, 5, 6, 7, 8

## 645008117322
designator P?  (value not drawn)
WR-WTB THT Male Right Angled Locking Header, pitch 3.96mm, 8pins; Manufacturer: Wurth Elektronik; Contact Resistance: 20mohm; Rated Current: 7A; Working Voltage: 250V(AC); Withstanding Voltage: 1500V(AC); Manufacturer Part Number: 645008117322; Product Series: WR-WTB; ComponentLink1Description: Website Link; ComponentLink1URL: https://www.we-online.com; ComponentLink2Description: Datasheet Link; ComponentLink2URL: https://www.we-online.com/components/products/datasheet/645008117322; Mount: Through Hole; Operating Temperature Min: -40degC; Operating Temperature Max: 105degC; Packaging: Bag; Length: 31.68mm; Width: 19.4mm; Height: 10.2mm; Gender: Male; Number of Pins: 8; Number of Rows: 1; Orientation: Right Angled; Lead Pitch: 3.96mm
footprint 645008117322
pins: 1, 2, 3, 4, 5, 6, 7, 8

## 645010114822
designator P?  (value not drawn)
WR-WTB THT Male Vertical Locking Header, pitch 3.96mm, 10pins; Manufacturer: Wurth Elektronik; Contact Resistance: 20mohm; Rated Current: 7A; Working Voltage: 250V(AC); Withstanding Voltage: 1500V(AC); Manufacturer Part Number: 645010114822; Product Series: WR-WTB; ComponentLink1Description: Website Link; ComponentLink1URL: https://www.we-online.com; ComponentLink2Description: Datasheet Link; ComponentLink2URL: https://www.we-online.com/components/products/datasheet/645010114822; Mount: Through Hole; Operating Temperature Min: -40degC; Operating Temperature Max: 105degC; Packaging: Bag; Length: 39.6mm; Width: 10.75mm; Height: 10.65mm; Gender: Male; Number of Pins: 10; Number of Rows: 1; Orientation: Vertical; Lead Pitch: 3.96mm
footprint 645010114822
pins: 1, 2, 3, 4, 5, 6, 7, 8, 9, 10

## 645010117322
designator P?  (value not drawn)
WR-WTB THT Male Right Angled Locking Header, pitch 3.96mm, 10pins; Manufacturer: Wurth Elektronik; Contact Resistance: 20mohm; Rated Current: 7A; Working Voltage: 250V(AC); Withstanding Voltage: 1500V(AC); Manufacturer Part Number: 645010117322; Product Series: WR-WTB; ComponentLink1Description: Website Link; ComponentLink1URL: https://www.we-online.com; ComponentLink2Description: Datasheet Link; ComponentLink2URL: https://www.we-online.com/components/products/datasheet/645010117322; Mount: Through Hole; Operating Temperature Min: -40degC; Operating Temperature Max: 105degC; Packaging: Bag; Length: 39.6mm; Width: 19.4mm; Height: 10.2mm; Gender: Male; Number of Pins: 10; Number of Rows: 1; Orientation: Right Angled; Lead Pitch: 3.96mm
footprint 645010117322
pins: 1, 2, 3, 4, 5, 6, 7, 8, 9, 10

## 648102131822
designator P?  (value not drawn)
WR-WTB SMT Male Horizontal Shrouded Header, pitch 1.5mm, 2pins; Manufacturer: Wurth Elektronik; Contact Resistance: 20mohm; Rated Current: 1A; Working Voltage: 50V(AC); Withstanding Voltage: 500V(AC); Manufacturer Part Number: 648102131822; Product Series: WR-WTB; ComponentLink1Description: Website Link; ComponentLink1URL: https://www.we-online.com; ComponentLink2Description: Datasheet Link; ComponentLink2URL: https://www.we-online.com/components/products/datasheet/648102131822; Mount: Surface Mount; Operating Temperature Min: -25degC; Operating Temperature Max: 85degC; Packaging: Tape and Reel; Length: 6mm; Width: 6.47mm; Height: 3.7mm; Gender: Male; Number of Pins: 2; Number of Rows: 1; Orientation: Horizontal; Lead Pitch: 1.5mm
footprint 648102131822
pins: 1, 2

## 648103131822
designator P?  (value not drawn)
WR-WTB SMT Male Horizontal Shrouded Header, pitch 1.5mm, 3pins; Manufacturer: Wurth Elektronik; Contact Resistance: 20mohm; Rated Current: 1A; Working Voltage: 50V(AC); Withstanding Voltage: 500V(AC); Manufacturer Part Number: 648103131822; Product Series: WR-WTB; ComponentLink1Description: Website Link; ComponentLink1URL: https://www.we-online.com; ComponentLink2Description: Datasheet Link; ComponentLink2URL: https://www.we-online.com/components/products/datasheet/648103131822; Mount: Surface Mount; Operating Temperature Min: -25degC; Operating Temperature Max: 85degC; Packaging: Tape and Reel; Length: 7.5mm; Width: 6.47mm; Height: 3.7mm; Gender: Male; Number of Pins: 3; Number of Rows: 1; Orientation: Horizontal; Lead Pitch: 1.5mm
footprint 648103131822
pins: 1, 2, 3

## 648104131822
designator P?  (value not drawn)
WR-WTB SMT Male Horizontal Shrouded Header, pitch 1.5mm, 4pins; Manufacturer: Wurth Elektronik; Contact Resistance: 20mohm; Rated Current: 1A; Working Voltage: 50V(AC); Withstanding Voltage: 500V(AC); Manufacturer Part Number: 648104131822; Product Series: WR-WTB; ComponentLink1Description: Website Link; ComponentLink1URL: https://www.we-online.com; ComponentLink2Description: Datasheet Link; ComponentLink2URL: https://www.we-online.com/components/products/datasheet/648104131822; Mount: Surface Mount; Operating Temperature Min: -25degC; Operating Temperature Max: 85degC; Packaging: Tape and Reel; Length: 9mm; Width: 6.47mm; Height: 3.7mm; Gender: Male; Number of Pins: 4; Number of Rows: 1; Orientation: Horizontal; Lead Pitch: 1.5mm
footprint 648104131822
pins: 1, 2, 3, 4

## 648105131822
designator P?  (value not drawn)
WR-WTB SMT Male Horizontal Shrouded Header, pitch 1.5mm, 5pins; Manufacturer: Wurth Elektronik; Contact Resistance: 20mohm; Rated Current: 1A; Working Voltage: 50V(AC); Withstanding Voltage: 500V(AC); Manufacturer Part Number: 648105131822; Product Series: WR-WTB; ComponentLink1Description: Website Link; ComponentLink1URL: https://www.we-online.com; ComponentLink2Description: Datasheet Link; ComponentLink2URL: https://www.we-online.com/components/products/datasheet/648105131822; Mount: Surface Mount; Operating Temperature Min: -25degC; Operating Temperature Max: 85degC; Packaging: Tape and Reel; Length: 10.5mm; Width: 6.47mm; Height: 3.7mm; Gender: Male; Number of Pins: 5; Number of Rows: 1; Orientation: Horizontal; Lead Pitch: 1.5mm
footprint 648105131822
pins: 1, 2, 3, 4, 5

## 648106131822
designator P?  (value not drawn)
WR-WTB SMT Male Horizontal Shrouded Header, pitch 1.5mm, 6pins; Manufacturer: Wurth Elektronik; Contact Resistance: 20mohm; Rated Current: 1A; Working Voltage: 50V(AC); Withstanding Voltage: 500V(AC); Manufacturer Part Number: 648106131822; Product Series: WR-WTB; ComponentLink1Description: Website Link; ComponentLink1URL: https://www.we-online.com; ComponentLink2Description: Datasheet Link; ComponentLink2URL: https://www.we-online.com/components/products/datasheet/648106131822; Mount: Surface Mount; Operating Temperature Min: -25degC; Operating Temperature Max: 85degC; Packaging: Tape and Reel; Length: 12mm; Width: 6.47mm; Height: 3.7mm; Gender: Male; Number of Pins: 6; Number of Rows: 1; Orientation: Horizontal; Lead Pitch: 1.5mm
footprint 648106131822
pins: 1, 2, 3, 4, 5, 6

## 648107131822
designator P?  (value not drawn)
WR-WTB SMT Male Horizontal Shrouded Header, pitch 1.5mm, 7pins; Manufacturer: Wurth Elektronik; Contact Resistance: 20mohm; Rated Current: 1A; Working Voltage: 50V(AC); Withstanding Voltage: 500V(AC); Manufacturer Part Number: 648107131822; Product Series: WR-WTB; ComponentLink1Description: Website Link; ComponentLink1URL: https://www.we-online.com; ComponentLink2Description: Datasheet Link; ComponentLink2URL: https://www.we-online.com/components/products/datasheet/648107131822; Mount: Surface Mount; Operating Temperature Min: -25degC; Operating Temperature Max: 85degC; Packaging: Tape and Reel; Length: 13.5mm; Width: 6.47mm; Height: 3.7mm; Gender: Male; Number of Pins: 7; Number of Rows: 1; Orientation: Horizontal; Lead Pitch: 1.5mm
footprint 648107131822
pins: 1, 2, 3, 4, 5, 6, 7

## 648108131822
designator P?  (value not drawn)
WR-WTB SMT Male Horizontal Shrouded Header, pitch 1.5mm, 8pins; Manufacturer: Wurth Elektronik; Contact Resistance: 20mohm; Rated Current: 1A; Working Voltage: 50V(AC); Withstanding Voltage: 500V(AC); Manufacturer Part Number: 648108131822; Product Series: WR-WTB; ComponentLink1Description: Website Link; ComponentLink1URL: https://www.we-online.com; ComponentLink2Description: Datasheet Link; ComponentLink2URL: https://www.we-online.com/components/products/datasheet/648108131822; Mount: Surface Mount; Operating Temperature Min: -25degC; Operating Temperature Max: 85degC; Packaging: Tape and Reel; Length: 15mm; Width: 6.47mm; Height: 3.7mm; Gender: Male; Number of Pins: 8; Number of Rows: 1; Orientation: Horizontal; Lead Pitch: 1.5mm
footprint 648108131822
pins: 1, 2, 3, 4, 5, 6, 7, 8

## 648109131822
designator P?  (value not drawn)
WR-WTB SMT Male Horizontal Shrouded Header, pitch 1.5mm, 9pins; Manufacturer: Wurth Elektronik; Contact Resistance: 20mohm; Rated Current: 1A; Working Voltage: 50V(AC); Withstanding Voltage: 500V(AC); Manufacturer Part Number: 648109131822; Product Series: WR-WTB; ComponentLink1Description: Website Link; ComponentLink1URL: https://www.we-online.com; ComponentLink2Description: Datasheet Link; ComponentLink2URL: https://www.we-online.com/components/products/datasheet/648109131822; Mount: Surface Mount; Operating Temperature Min: -25degC; Operating Temperature Max: 85degC; Packaging: Tape and Reel; Length: 16.5mm; Width: 6.47mm; Height: 3.7mm; Gender: Male; Number of Pins: 9; Number of Rows: 1; Orientation: Horizontal; Lead Pitch: 1.5mm
footprint 648109131822
pins: 1, 2, 3, 4, 5, 6, 7, 8, 9

## 648110131822
designator P?  (value not drawn)
WR-WTB SMT Male Horizontal Shrouded Header, pitch 1.5mm, 10pins; Manufacturer: Wurth Elektronik; Contact Resistance: 20mohm; Rated Current: 1A; Working Voltage: 50V(AC); Withstanding Voltage: 500V(AC); Manufacturer Part Number: 648110131822; Product Series: WR-WTB; ComponentLink1Description: Website Link; ComponentLink1URL: https://www.we-online.com; ComponentLink2Description: Datasheet Link; ComponentLink2URL: https://www.we-online.com/components/products/datasheet/648110131822; Mount: Surface Mount; Operating Temperature Min: -25degC; Operating Temperature Max: 85degC; Packaging: Tape and Reel; Length: 18mm; Width: 6.47mm; Height: 3.7mm; Gender: Male; Number of Pins: 10; Number of Rows: 1; Orientation: Horizontal; Lead Pitch: 1.5mm
footprint 648110131822
pins: 1, 2, 3, 4, 5, 6, 7, 8, 9, 10

## 653002114822
designator P?  (value not drawn)
WR-WTB THT Male Vertical Shrouded Header, pitch 1.25mm, 2pins; Manufacturer: Wurth Elektronik; Contact Resistance: 20mohm; Rated Current: 1A; Working Voltage: 125V(AC); Withstanding Voltage: 250V(AC); Manufacturer Part Number: 653002114822; Product Series: WR-WTB; ComponentLink1Description: Website Link; ComponentLink1URL: https://www.we-online.com; ComponentLink2Description: Datasheet Link; ComponentLink2URL: https://www.we-online.com/components/products/datasheet/653002114822; Mount: Through Hole; Operating Temperature Min: -40degC; Operating Temperature Max: 85degC; Packaging: Bag; Length: 4.25mm; Width: 3.2mm; Height: 4.2mm; Gender: Male; Number of Pins: 2; Number of Rows: 1; Orientation: Vertical; Lead Pitch: 1.25mm
footprint 653002114822
pins: 1, 2